# EAGLE library part 691413720023 (library Terminal_Blocks_Connectors_rev15e)
WR-TBL Terminal block - serie 413 5.0mm - Spring clamp/Screw less - 45° entry - 23p Code:Con_TBL_Screwless_5.00_6914137200xxB_691413720023 <http://katalog.we-online.de/media/images/eican/Con_TBL_Screwless_5.00_6914137200xxB_pf2.jpg> Details see: http://katalog.we-online.de/en/em/691_413_720_0xxB/691_413_720_023B?m Created 2014-12-22, aslant tao 2014 (C) Würth Elektronik
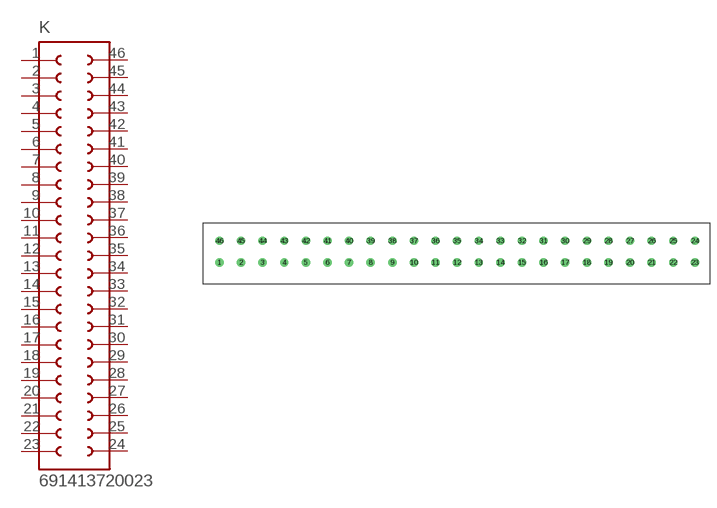
[diagram p300: symbol with the pads of 691413720023; footprint 691413720023]

Designator prefix K

## 691413720023  [691413720023]
1  1  pas
2  2  pas
3  3  pas
4  4  pas
5  5  pas
6  6  pas
7  7  pas
8  8  pas
9  9  pas
10  10  pas
11  11  pas
12  12  pas
13  13  pas
14  14  pas
15  15  pas
16  16  pas
17  17  pas
18  18  pas
19  19  pas
20  20  pas
21  21  pas
22  22  pas
23  23  pas
24  24  pas
25  25  pas
26  26  pas
27  27  pas
28  28  pas
29  29  pas
30  30  pas
31  31  pas
32  32  pas
33  33  pas
34  34  pas
35  35  pas
36  36  pas
37  37  pas
38  38  pas
39  39  pas
40  40  pas
41  41  pas
42  42  pas
43  43  pas
44  44  pas
45  45  pas
46  46  pas

## Footprint 691413720023 (pad centres in mm)
WR-TBL Serie 413 - 5.0mm Screwless 45° Entry - 3 mm2 Wires, 23 Pins
drill 1.3: 1 -5,-2.5; 2 0,-2.5; 3 5,-2.5; 4 10,-2.5; 5 15,-2.5; 6 20,-2.5; 7 25,-2.5; 8 30,-2.5; 9 35,-2.5; 10 40,-2.5; 11 45,-2.5; 12 50,-2.5; 13 55,-2.5; 14 60,-2.5; 15 65,-2.5; 16 70,-2.5; 17 75,-2.5; 18 80,-2.5; 19 85,-2.5; 20 90,-2.5; 21 95,-2.5; 22 100,-2.5; 23 105,-2.5; 24 105,2.5; 25 100,2.5; 26 95,2.5; 27 90,2.5; 28 85,2.5; 29 80,2.5; 30 75,2.5; 31 70,2.5; 32 65,2.5; 33 60,2.5; 34 55,2.5; 35 50,2.5; 36 45,2.5; 37 40,2.5; 38 35,2.5; 39 30,2.5; 40 25,2.5; 41 20,2.5; 42 15,2.5; 43 10,2.5; 44 5,2.5; 45 0,2.5; 46 -5,2.5